# Altium footprint library Connector.PcbLib: 240 footprints (part 11 of 15)
Each footprint in its own frame and in the unit in brackets; x right, y up, seen from the top. Pads: shape width x height; smd on the part's side, far side on the other; paste and mask are expansions set on the pad; w line width, h text height; cw(c..) or ccw(c..) is an arc to the next point about the centre after c.
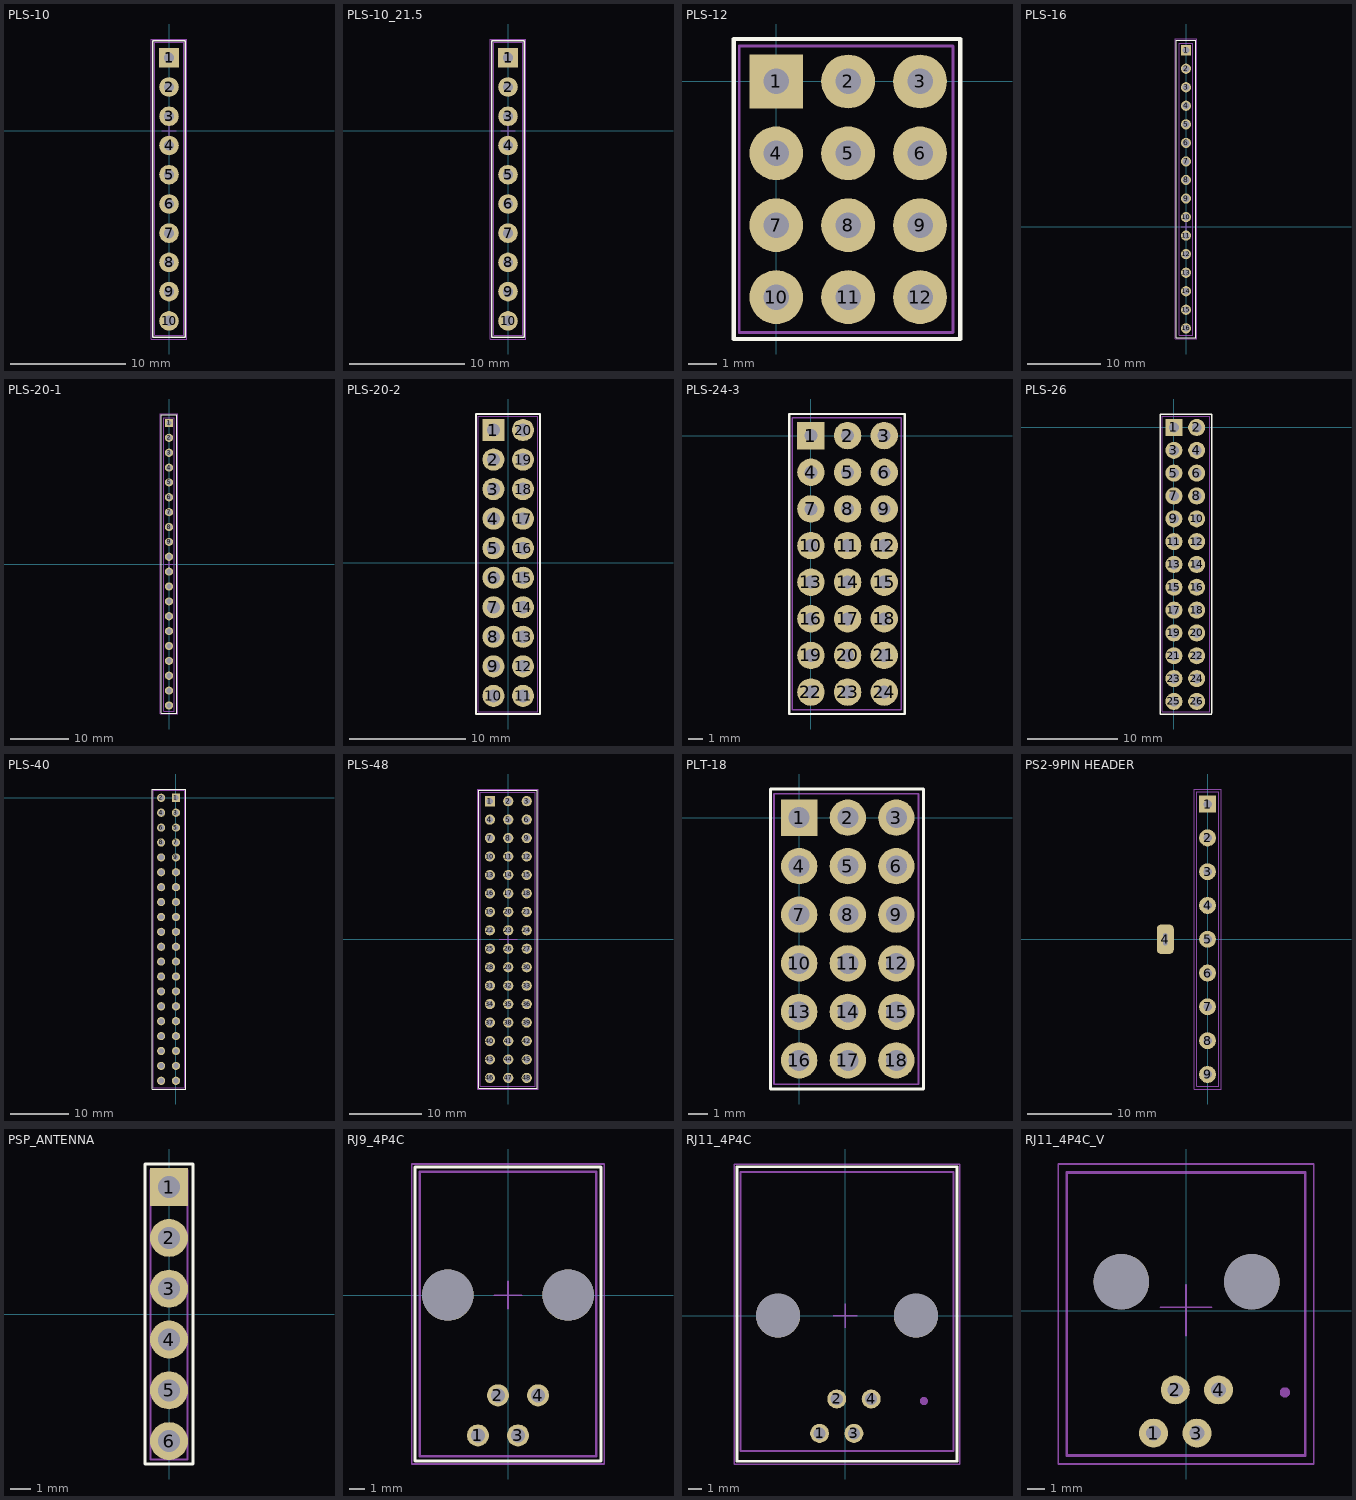
[diagram p10: the footprints below, top view; thin cyan lines are the x and y axes]

## PLS-10 [mm]
height 0.05
pads (10):
  rect 1.7x1.7 hole 0.9: 1(0,6.345)
  round 1.7 hole 0.9: 2(0,3.805) 3(0,1.265) 5(0,-3.815) 6(0,-6.355) 7(0,-8.895) 8(0,-11.435) 9(0,-13.975) 10(0,-16.515)
  round 1.7 hole 0.9 mask+0.102: 4(0,-1.275)
Top Overlay:
  lines w0.15: -1.4,-17.935 -1.4,7.825 1.4,7.825 1.4,-17.935 -1.4,-17.935
Mechanical 9:
  text ".Designator" at -4.5,9 h3.5
Mechanical 10:
  text ".Comment" at -3,-19.75 h2
Mechanical 11:
  lines w0.1: -1.23,-17.755 -1.23,7.68 1.3,7.68 1.3,-17.755 -1.23,-17.755
Mechanical 15:
  lines w0.1: -0.625,0 0.625,0 ; 0,-0.6 0,0.6 ; -1.55,-18.085 -1.55,7.95 -1.55,7.975 1.525,7.975 1.55,7.975 1.55,-18.085 -1.55,-18.085
3D body "User Library-PLS-2.step": height 8.54, standoff -3, extent -1.265,-12.675 1.275,-7.595
3D body "User Library-PLS-6.step": height 8.54, standoff -3, extent -1.27,-7.585 1.27,7.655
3D body "User Library-PLS-2.step": height 8.54, standoff -3, extent -1.265,-17.755 1.275,-12.675

## PLS-10_21.5 [mm]
height 0.05
pads (10):
  rect 1.7x1.7 hole 0.9: 1(0,6.345)
  round 1.7 hole 0.9: 2(0,3.805) 3(0,1.265) 5(0,-3.815) 6(0,-6.355) 7(0,-8.895) 8(0,-11.435) 9(0,-13.975) 10(0,-16.515)
  round 1.7 hole 0.9 mask+0.102: 4(0,-1.275)
Top Overlay:
  lines w0.15: -1.4,-17.935 1.4,-17.935 1.4,7.825 -1.4,7.825 -1.4,-17.935
Mechanical 9:
  text ".Designator" at -4.5,9 h3.5
Mechanical 10:
  text ".Comment" at -3,-19.75 h2
Mechanical 11:
  lines w0.1: -1.23,-17.755 1.3,-17.755 1.3,7.68 -1.23,7.68 -1.23,-17.755
Mechanical 15:
  lines w0.1: -0.625,0 0.625,0 ; 0,-0.6 0,0.6 ; -1.55,-18.085 1.55,-18.085 1.55,7.975 1.525,7.975 -1.55,7.975 -1.55,7.95 -1.55,-18.085
3D body "PLS10.STEP": height 24, standoff -3, extent -1.29,-17.775 1.25,7.625

## PLS-12 [mm]
height 0.05
pads (12):
  rect 1.9x1.9 hole 0.9: 1(0,0)
  round 1.9 hole 0.9: 2(2.54,0) 3(5.08,0) 4(0,-2.54) 5(2.54,-2.54) 6(5.08,-2.54) 7(0,-5.08) 8(2.54,-5.08) 9(5.08,-5.08) 11(2.54,-7.62) 12(5.08,-7.62)
  round 1.9 hole 0.9 mask+0.102: 10(0,-7.62)
Top Overlay:
  lines w0.15: -1.5,-9.1 -1.5,1.5 6.5,1.5 6.5,-9.1 -1.5,-9.1
Mechanical 7:
  lines w0.1: -1.31,-8.87 -1.31,1.25 6.25,1.25 6.25,-8.87 -1.31,-8.87
Mechanical 9:
  text ".Designator" at -3,2.5 h3.5
Mechanical 10:
  text ".Comment" at -0.5,-11 h2
3D body "User Library-PLS-3.step": height 8.54, standoff -3, extent -1.31,-1.25 6.31,1.29
3D body "User Library-PLS-3.step": height 8.54, standoff -3, extent -1.31,-3.79 6.31,-1.25
3D body "User Library-PLS-3.step": height 8.54, standoff -3, extent -1.31,-6.33 6.31,-3.79
3D body "User Library-PLS-3.step": height 8.54, standoff -3, extent -1.31,-8.87 6.31,-6.33

## PLS-16 [mm]
height 0.05
pads (16):
  rect 1.4x1.4 hole 0.92: 1(0,24.17)
  round 1.4 hole 0.92: 2(0,21.63) 3(0,19.09) 5(0,14.01) 6(0,11.47) 7(0,8.93) 9(0,3.85) 10(0,1.31) 11(0,-1.23) 13(0,-6.31) 14(0,-8.85) 15(0,-11.39) 16(0,-13.93)
  round 1.4 hole 0.92 mask+0.102: 4(0,16.55) 8(0,6.39) 12(0,-3.77)
Top Overlay:
  lines w0.15: -1.35,-15.24 -1.35,25.55 1.35,25.55 1.35,-15.24 -1.35,-15.24
Mechanical 9:
  text ".Designator" at -5.2,26.6 h3.5
Mechanical 10:
  text ".Comment" at -2.825,-17.025 h2
Mechanical 11:
  lines w0.1: -0.93,-14.9 -0.93,25.1 0.93,25.1 0.93,-14.9 -0.93,-14.9
Mechanical 15:
  lines w0.1: -0.625,0 0.625,0 ; 0,-0.6 0,0.6 ; -1.5,-15.39 -1.5,7.8 -1.5,25.7 1.5,25.7 1.5,7.825 1.5,-15.39 -1.5,-15.39
3D body "User Library-PLS-6.step": height 8.54, standoff -3, extent -1.27,10.24 1.27,25.48
3D body "User Library-PLS-6.step": height 8.54, standoff -3, extent -1.27,-5 1.27,10.24
3D body "User Library-PLS-2.step": height 8.54, standoff -3, extent -1.27,-10.09 1.27,-5.01
3D body "User Library-PLS-2.step": height 8.54, standoff -3, extent -1.27,-15.17 1.27,-10.09

## PLS-20-1 [mm]
height 0.05
pads (20):
  rect 1.4x1.4 hole 0.92: 1(0,24.17)
  round 1.4 hole 0.92: 2(0,21.63) 3(0,19.09) 5(0,14.01) 6(0,11.47) 7(0,8.93) 9(0,3.85) 10(0,1.31) 11(0,-1.23) 13(0,-6.31) 14(0,-8.85) 15(0,-11.39) 16(0,-13.93) 17(0,-16.47) 19(0,-21.55) 20(0,-24.09)
  round 1.4 hole 0.92 mask+0.102: 4(0,16.55) 8(0,6.39) 12(0,-3.77) 18(0,-19.01)
Top Overlay:
  lines w0.15: -1.35,-25.4 -1.35,25.55 1.35,25.55 1.35,-25.4 -1.35,-25.4
Mechanical 9:
  text ".Designator" at -5.2,26.6 h3.5
Mechanical 10:
  text ".Comment" at -2.9,-27.6 h2
Mechanical 11:
  lines w0.1: -0.93,-25.06 -0.93,25.1 0.93,25.1 0.93,-25.06 -0.93,-25.06
Mechanical 15:
  lines w0.1: -0.625,0 0.625,0 ; 0,-0.6 0,0.6 ; -1.5,-25.55 1.5,-25.55 1.5,7.825 1.5,25.7 -1.5,25.7 -1.5,7.8 -1.5,-25.55
3D body "User Library-PLS-6.step": height 8.54, standoff -3, extent -1.27,-5 1.27,10.24
3D body "User Library-PLS-6.step": height 8.54, standoff -3, extent -1.27,10.24 1.27,25.48
3D body "User Library-PLS-2.step": height 8.54, standoff -3, extent -1.27,-25.33 1.27,-20.25
3D body "User Library-PLS-6.step": height 8.54, standoff -3, extent -1.27,-20.24 1.27,-5

## PLS-20-2 [mm]
height 0.05
pads (20):
  rect 1.9x1.9 hole 1.1: 1(-1.27,11.43)
  round 1.9 hole 1.1: 2(-1.27,8.89) 3(-1.27,6.35) 5(-1.27,1.27) 6(-1.27,-1.27) 7(-1.27,-3.81) 9(-1.27,-8.89) 10(-1.27,-11.43) 11(1.27,-11.43) 12(1.27,-8.89) 14(1.27,-3.81) 15(1.27,-1.27) 16(1.27,1.27) 18(1.27,6.35) 19(1.27,8.89) 20(1.27,11.43)
  round 1.9 hole 1.1 mask+0.102: 4(-1.27,3.81) 8(-1.27,-6.35) 13(1.27,-6.35) 17(1.27,3.81)
Top Overlay:
  lines w0.15: -2.77,-12.99 2.73,-12.99 2.73,12.81 -2.77,12.81 -2.77,-12.99
Mechanical 7:
  lines w0.1: -2.57,-12.79 2.53,-12.79 2.53,12.61 -2.57,12.61 -2.57,-12.79
Mechanical 10:
  text ".Comment" at -0.17,3.51 h0.6
  text ".Designator" at -0.07,12.21 h0.8
3D body "User Library-PLS-5.step": height 8.54, standoff -3, extent 0,-12.7 2.54,0
3D body "User Library-PLS-5.step": height 8.54, standoff -3, extent 0,0 2.54,12.7
3D body "User Library-PLS-5.step": height 8.54, standoff -3, extent -2.54,-12.7 0,0
3D body "User Library-PLS-5.step": height 8.54, standoff -3, extent -2.54,0 0,12.7

## PLS-24-3 [mm]
height 0.05
pads (24):
  rect 1.9x1.9 hole 0.9: 1(0,0)
  round 1.9 hole 0.9: 2(2.54,0) 3(5.08,0) 4(0,-2.54) 5(2.54,-2.54) 6(5.08,-2.54) 7(0,-5.08) 8(2.54,-5.08) 9(5.08,-5.08) 11(2.54,-7.62) 12(5.08,-7.62) 13(0,-10.16) 14(2.54,-10.16) 15(5.08,-10.16) 16(0,-12.7) 17(2.54,-12.7) 18(5.08,-12.7) 19(0,-15.24) 20(2.54,-15.24) 21(5.08,-15.24) 22(0,-17.78) 23(2.54,-17.78) 24(5.08,-17.78)
  round 1.9 hole 0.9 mask+0.102: 10(0,-7.62)
Top Overlay:
  lines w0.15: -1.5,-19.3 -1.5,1.5 6.5,1.5 6.5,-19.3 -1.5,-19.3
Mechanical 7:
  lines w0.1: -1.31,-19 -1.31,1.25 6.25,1.25 6.25,-19 -1.31,-19
Mechanical 10:
  text ".Comment" at 1.1,-7.92 h0.6
  text ".Designator" at 1.2,0.78 h0.8
3D body "User Library-PLS-3.step": height 8.54, standoff -3, extent -1.31,-1.25 6.31,1.29
3D body "User Library-PLS-3.step": height 8.54, standoff -3, extent -1.31,-3.79 6.31,-1.25
3D body "User Library-PLS-3.step": height 8.54, standoff -3, extent -1.31,-6.33 6.31,-3.79
3D body "User Library-PLS-3.step": height 8.54, standoff -3, extent -1.31,-8.87 6.31,-6.33
3D body "User Library-PLS-3.step": height 8.54, standoff -3, extent -1.31,-19.03 6.31,-16.49
3D body "User Library-PLS-3.step": height 8.54, standoff -3, extent -1.31,-16.49 6.31,-13.95
3D body "User Library-PLS-3.step": height 8.54, standoff -3, extent -1.31,-13.95 6.31,-11.41
3D body "User Library-PLS-3.step": height 8.54, standoff -3, extent -1.31,-11.41 6.31,-8.87

## PLS-26 [mm]
height 0.05
pads (26):
  rect 1.9x1.9 hole 1.1: 1(0,0)
  round 1.9 hole 1.1: 2(2.54,0) 3(0,-2.54) 4(2.54,-2.54) 5(0,-5.08) 6(2.54,-5.08) 8(2.54,-7.62) 9(0,-10.16) 10(2.54,-10.16) 11(0,-12.7) 12(2.54,-12.7) 13(0,-15.24) 14(2.54,-15.24) 15(0,-17.78) 16(2.54,-17.78) 19(0,-22.86) 20(2.54,-22.86) 21(0,-25.4) 22(2.54,-25.4) 23(0,-27.94) 24(2.54,-27.94) 25(0,-30.48) 26(2.54,-30.48)
  round 1.9 hole 1.1 mask+0.102: 7(0,-7.62) 17(0,-20.32) 18(2.54,-20.32)
Top Overlay:
  lines w0.15: 4.2,-31.88 -1.5,-31.88 -1.5,1.5 4.2,1.5 4.2,-31.8
Mechanical 7:
  lines w0.1: -1.3,-31.63 4,-31.63 ; -1.3,-31.6 -1.3,1.25 4,1.25 4,-31.6
Mechanical 10:
  text ".Designator" at 1.2,0.78 h0.8
  text ".Comment" at 1.1,-7.92 h0.6
3D body "User Library-PLS-2.step": height 8.54, standoff -3, extent -1.24,-1.275 3.84,1.265
3D body "User Library-PLS-2.step": height 8.54, standoff -3, extent -1.24,-3.815 3.84,-1.275
3D body "User Library-PLS-2.step": height 8.54, standoff -3, extent -1.24,-6.355 3.84,-3.815
3D body "User Library-PLS-2.step": height 8.54, standoff -3, extent -1.24,-8.895 3.84,-6.355
3D body "User Library-PLS-2.step": height 8.54, standoff -3, extent -1.24,-11.435 3.84,-8.895
3D body "User Library-PLS-2.step": height 8.54, standoff -3, extent -1.24,-13.975 3.84,-11.435
3D body "User Library-PLS-2.step": height 8.54, standoff -3, extent -1.24,-16.515 3.84,-13.975
3D body "User Library-PLS-2.step": height 8.54, standoff -3, extent -1.24,-19.055 3.84,-16.515
3D body "User Library-PLS-2.step": height 8.54, standoff -3, extent -1.24,-21.595 3.84,-19.055
3D body "User Library-PLS-2.step": height 8.54, standoff -3, extent -1.24,-24.135 3.84,-21.595
3D body "User Library-PLS-2.step": height 8.54, standoff -3, extent -1.24,-26.675 3.84,-24.135
3D body "User Library-PLS-2.step": height 8.54, standoff -3, extent -1.24,-29.215 3.84,-26.675
3D body "User Library-PLS-2.step": height 8.54, standoff -3, extent -1.24,-31.755 3.84,-29.215

## PLS-40 [mm]
height 0.05
pads (40):
  rect 1.4x1.4 hole 0.92: 1(0,0)
  round 1.4 hole 0.92: 2(-2.54,0) 3(0,-2.54) 4(-2.54,-2.54) 5(0,-5.08) 6(-2.54,-5.08) 8(-2.54,-7.62) 9(0,-10.16) 10(-2.54,-10.16) 11(0,-12.7) 12(-2.54,-12.7) 13(0,-15.24) 14(-2.54,-15.24) 15(0,-17.78) 16(-2.54,-17.78) 19(0,-22.86) 20(-2.54,-22.86) 21(0,-25.4) 22(-2.54,-25.4) 23(0,-27.94) 24(-2.54,-27.94) 25(0,-30.48) 26(-2.54,-30.48) 27(0,-33.02) 28(-2.54,-33.02) 31(0,-38.1) 32(-2.54,-38.1) 33(0,-40.64) 34(-2.54,-40.64) 35(0,-43.18) 36(-2.54,-43.18) 39(0,-48.26) 40(-2.54,-48.26)
  round 1.4 hole 0.92 mask+0.102: 7(0,-7.62) 17(0,-20.32) 18(-2.54,-20.32) 29(0,-35.56) 30(-2.54,-35.56) 37(0,-45.72) 38(-2.54,-45.72)
Top Overlay:
  lines w0.15: -4.04,-49.66 1.66,-49.66 1.66,1.5 -4.04,1.5 -4.04,-49.66
Mechanical 7:
  lines w0.1: -3.85,-49.41 1.46,-49.41 1.46,1.25 -3.85,1.25 -3.85,-49.4
Mechanical 10:
  text ".Comment" at -1.44,-7.92 h0.6
  text ".Designator" at -1.34,0.78 h0.8
3D body "User Library-PLS-2.step": height 8.54, standoff -3, extent -3.78,-49.535 1.3,-46.995
3D body "User Library-PLS-2.step": height 8.54, standoff -3, extent -3.78,-46.995 1.3,-44.455
3D body "User Library-PLS-2.step": height 8.54, standoff -3, extent -3.78,-44.455 1.3,-41.915
3D body "User Library-PLS-2.step": height 8.54, standoff -3, extent -3.78,-41.915 1.3,-39.375
3D body "User Library-PLS-2.step": height 8.54, standoff -3, extent -3.78,-39.375 1.3,-36.835
3D body "User Library-PLS-2.step": height 8.54, standoff -3, extent -3.78,-36.835 1.3,-34.295
3D body "User Library-PLS-2.step": height 8.54, standoff -3, extent -3.78,-34.295 1.3,-31.755
3D body "User Library-PLS-2.step": height 8.54, standoff -3, extent -3.78,-31.755 1.3,-29.215
3D body "User Library-PLS-2.step": height 8.54, standoff -3, extent -3.78,-29.215 1.3,-26.675
3D body "User Library-PLS-2.step": height 8.54, standoff -3, extent -3.78,-26.675 1.3,-24.135
3D body "User Library-PLS-2.step": height 8.54, standoff -3, extent -3.78,-24.135 1.3,-21.595
3D body "User Library-PLS-2.step": height 8.54, standoff -3, extent -3.78,-21.595 1.3,-19.055
3D body "User Library-PLS-2.step": height 8.54, standoff -3, extent -3.78,-19.055 1.3,-16.515
3D body "User Library-PLS-2.step": height 8.54, standoff -3, extent -3.78,-16.515 1.3,-13.975
3D body "User Library-PLS-2.step": height 8.54, standoff -3, extent -3.78,-13.975 1.3,-11.435
3D body "User Library-PLS-2.step": height 8.54, standoff -3, extent -3.78,-11.435 1.3,-8.895
3D body "User Library-PLS-2.step": height 8.54, standoff -3, extent -3.78,-8.895 1.3,-6.355
3D body "User Library-PLS-2.step": height 8.54, standoff -3, extent -3.78,-6.355 1.3,-3.815
3D body "User Library-PLS-2.step": height 8.54, standoff -3, extent -3.78,-3.815 1.3,-1.275
3D body "User Library-PLS-2.step": height 8.54, standoff -3, extent -3.78,-1.275 1.3,1.265

## PLS-48 [mm]
height 0.05
pads (48):
  rect 1.4x1.4 hole 0.92: 1(-2.55,19.025)
  round 1.4 hole 0.92: 2(-0.01,19.025) 3(2.53,19.025) 4(-2.55,16.485) 5(-0.01,16.485) 6(2.53,16.485) 7(-2.55,13.945) 8(-0.01,13.945) 9(2.53,13.945) 11(-0.01,11.405) 12(2.53,11.405) 13(-2.55,8.865) 14(-0.01,8.865) 15(2.53,8.865) 16(-2.55,6.325) 17(-0.01,6.325) 18(2.53,6.325) 19(-2.55,3.785) 20(-0.01,3.785) 21(2.53,3.785) 22(-2.55,1.245) 23(-0.01,1.245) 24(2.53,1.245) 28(-2.55,-3.835) 29(-0.01,-3.835) 30(2.53,-3.835) 31(-2.55,-6.375) 32(-0.01,-6.375) 33(2.53,-6.375) 34(-2.55,-8.915) 35(-0.01,-8.915) 36(2.53,-8.915) 37(-2.55,-11.455) 38(-0.01,-11.455) 39(2.53,-11.455) 40(-2.55,-13.995) 41(-0.01,-13.995) 42(2.53,-13.995) 46(-2.55,-19.075) 47(-0.01,-19.075) 48(2.53,-19.075)
  round 1.4 hole 0.92 mask+0.102: 10(-2.55,11.405) 25(-2.55,-1.295) 26(-0.01,-1.295) 27(2.53,-1.295) 43(-2.55,-16.535) 44(-0.01,-16.535) 45(2.53,-16.535)
Top Overlay:
  lines w0.15: -4.05,-20.475 3.95,-20.475 3.95,20.525 -4.05,20.525 -4.05,-20.475
Mechanical 9:
  text ".Designator" at -5.3,21.525 h3.5
Mechanical 10:
  text ".Comment" at -2.8,-21.975 h2
  text ".Comment" at -1.45,11.105 h0.6
Mechanical 11:
  lines w0.1: -3.86,-20.225 3.7,-20.225 3.7,20.275 -3.86,20.275 -3.86,-20.225
Mechanical 15:
  lines w0.1: -1.25,0 1.25,0 ; 0,-1.25 0,1.25 ; -4.2,-20.6 -4.2,20.7 4.1,20.7 4.1,0.8 4.1,-20.6 -4.2,-20.6
3D body "User Library-PLS-3.step": height 8.54, standoff -3, extent -3.86,-20.325 3.76,-17.785
3D body "User Library-PLS-3.step": height 8.54, standoff -3, extent -3.86,-17.785 3.76,-15.245
3D body "User Library-PLS-3.step": height 8.54, standoff -3, extent -3.86,-15.245 3.76,-12.705
3D body "User Library-PLS-3.step": height 8.54, standoff -3, extent -3.86,-12.705 3.76,-10.165
3D body "User Library-PLS-3.step": height 8.54, standoff -3, extent -3.86,-10.165 3.76,-7.625
3D body "User Library-PLS-3.step": height 8.54, standoff -3, extent -3.86,-7.625 3.76,-5.085
3D body "User Library-PLS-3.step": height 8.54, standoff -3, extent -3.86,-5.085 3.76,-2.545
3D body "User Library-PLS-3.step": height 8.54, standoff -3, extent -3.86,-2.545 3.76,-0.005
3D body "User Library-PLS-3.step": height 8.54, standoff -3, extent -3.86,-0.005 3.76,2.535
3D body "User Library-PLS-3.step": height 8.54, standoff -3, extent -3.86,2.535 3.76,5.075
3D body "User Library-PLS-3.step": height 8.54, standoff -3, extent -3.86,5.075 3.76,7.615
3D body "User Library-PLS-3.step": height 8.54, standoff -3, extent -3.86,7.615 3.76,10.155
3D body "User Library-PLS-3.step": height 8.54, standoff -3, extent -3.86,10.155 3.76,12.695
3D body "User Library-PLS-3.step": height 8.54, standoff -3, extent -3.86,12.695 3.76,15.235
3D body "User Library-PLS-3.step": height 8.54, standoff -3, extent -3.86,15.235 3.76,17.775
3D body "User Library-PLS-3.step": height 8.54, standoff -3, extent -3.86,17.775 3.76,20.315

## PLT-18 [mm]
height 0.05
pads (18):
  rect 1.9x1.9 hole 1.1: 1(0,0)
  round 1.9 hole 1.1: 2(2.54,0) 3(5.08,0) 4(0,-2.54) 5(2.54,-2.54) 6(5.08,-2.54) 7(0,-5.08) 8(2.54,-5.08) 9(5.08,-5.08) 11(2.54,-7.62) 12(5.08,-7.62) 13(0,-10.16) 14(2.54,-10.16) 15(5.08,-10.16) 16(0,-12.7) 17(2.54,-12.7) 18(5.08,-12.7)
  round 1.9 hole 1.1 mask+0.102: 10(0,-7.62)
Top Overlay:
  lines w0.15: -1.5,-14.2 6.5,-14.2 6.5,1.5 -1.5,1.5 -1.5,-14.2
Mechanical 7:
  lines w0.1: -1.31,-13.95 6.25,-13.95 6.25,1.25 -1.31,1.25 -1.31,-13.95
Mechanical 10:
  text ".Designator" at 1.2,0.78 h0.8
  text ".Comment" at 1.1,-7.92 h0.6
3D body "User Library-PLS-3.step": height 8.54, standoff -3, extent -1.31,-11.41 6.31,-8.87
3D body "User Library-PLS-3.step": height 8.54, standoff -3, extent -1.31,-13.95 6.31,-11.41
3D body "User Library-PLS-3.step": height 8.54, standoff -3, extent -1.31,-8.87 6.31,-6.33
3D body "User Library-PLS-3.step": height 8.54, standoff -3, extent -1.31,-6.33 6.31,-3.79
3D body "User Library-PLS-3.step": height 8.54, standoff -3, extent -1.31,-3.79 6.31,-1.25
3D body "User Library-PLS-3.step": height 8.54, standoff -3, extent -1.31,-1.25 6.31,1.29

## PS2-9PIN HEADER [mm]
height 0.05
pads (10):
  rect 2x2 hole 1: 1(0,16)
  round 2 hole 1: 2(0,12) 3(0,8) 5(0,0) 6(0,-4) 7(0,-8) 8(0,-12) 9(0,-16)
  rrect50% 2x3.5 hole 0.5 slot 1.4 at 90 deg: 4(-5,0)
  round 2 hole 1 mask+0.102: 4(0,4)
Mechanical 9:
  text ".Designator" at -6.65,-22.1 h3.5
Mechanical 10:
  text ".Comment" at -2.25,-24.275 h2
Mechanical 11:
  lines w0.1: -1.25,-17.4 1.3,-17.4 1.3,17.465 -1.25,17.465 -1.25,-17.4
Mechanical 15:
  lines w0.1: -0.625,0 0.625,0 ; 0,-0.6 0,0.6 ; -1.6,-17.725 1.65,-17.725 1.65,9.215 1.65,17.79 -1.6,17.79 -1.6,9.14 -1.6,-17.725

## PSP_ANTENNA [mm]
height 0.05
pads (6):
  rect 1.9x1.9 hole 1.1: 1(0,6.345)
  round 1.9 hole 1.1: 2(0,3.805) 3(0,1.265) 5(0,-3.815) 6(0,-6.355)
  round 1.9 hole 1.1 mask+0.102: 4(0,-1.275)
Top Overlay:
  lines w0.15: -1.2,-7.5 1.2,-7.5 1.2,7.5 -1.2,7.5 -1.2,-7.5
Mechanical 7:
  lines w0.1: -0.93,-7.275 0.93,-7.275 0.93,7.205 -0.93,7.205 -0.93,-7.275
Mechanical 10:
  text ".Designator" at 1.2,7.125 h0.8
  text ".Comment" at 1.1,-1.575 h0.6
3D body "PSP_Antenna.STEP": height 54.05, standoff -5.95, extent -2.275,-23.625 22.725,24.375

## RJ9_4P4C [mm]
pads (6):
  round 1.398 hole 0.89: 1(-1.905,-8.89) 2(-0.635,-6.35) 3(0.635,-8.89) 4(1.905,-6.35)
  round 3.25 hole 3.25 unplated: ""(-3.81,0) ""(3.81,0)
Top Overlay:
  lines w0.2: -5.9,-10.5 5.9,-10.5 5.9,8.1 -5.9,8.1 -5.9,-10.5
Mechanical 9:
  text ".Designator" at -6.6,10.5 h3.5
Mechanical 10:
  text ".Comment" at -1,8.9 h2
Mechanical 11:
  lines w0.15: -5.6,-10.2 -5.6,7.8 5.6,7.8 5.6,-10.2 -5.6,-10.2
Mechanical 15:
  lines w0.1: -0.875,0 0.875,0 ; 0,-0.875 0,0.875 ; -6.1,-10.7 -6.1,8.3 6.1,8.3 6.1,-10.7 -6.1,-10.7
3D body "User Library-RJ 4p4c.step": height 11.65, standoff -3.45, extent -5.59,-10.15 5.59,7.85

## RJ11_4P4C [mm]
pads (6):
  round 1.398 hole 0.89: 1(-1.9,-8.69) 2(-0.63,-6.15) 3(0.64,-8.69) 4(1.91,-6.15)
  round 3.25 hole 3.25 unplated: ""(-4.965,0) ""(5.215,0)
Top Overlay:
  lines w0.2: -8,-10.75 -8,11 8.25,11 8.25,-10.75 -8,-10.75
Mechanical 4:
  circle w0.3: c5.8,-6.3 r0.15
Mechanical 9:
  text ".Designator" at -4.95,13.7 h3.5
Mechanical 10:
  text ".Comment" at -2.75,11.7 h2
Mechanical 11:
  lines w0.15: -7.75,-9.975 -7.75,10.6 7.975,10.6 7.975,-9.975 -7.75,-9.975
Mechanical 15:
  lines w0.1: -0.875,0 0.875,0 ; 0,-0.875 0,0.875 ; -8.2,-10.95 8.45,-10.95 8.45,11.2 -8.2,11.2 -8.2,11.125 -8.2,-10.125 -8.2,-10.95
3D body "ACC-M-RJE02-164-0X21-REVT1.step": height 16.03, standoff -3.62, extent -7.75,-9.98 8,10.59

## RJ11_4P4C_V [mm]
pads (6):
  round 1.7 hole 0.89: 1(-1.9,-7.19) 2(-0.63,-4.65) 3(0.64,-7.19) 4(1.91,-4.65)
  round 3.25 hole 3.25 unplated: ""(-3.79,1.7) ""(3.865,1.7)
Mechanical 4:
  circle w0.3: c5.8,-4.8 r0.15
Mechanical 9:
  text ".Designator" at -5.8,-11.8 h3.5
Mechanical 10:
  text ".Comment" at -3.6,-13.8 h2
Mechanical 11:
  lines w0.15: -7,-8.5 -7,8.1 7,8.1 7,-8.5 -7,-8.5
Mechanical 15:
  lines w0.1: -1.5,0.2 1.5,0.2 ; 0,-1.47 0,1.5 ; -7.5,-9 7.5,-9 7.5,8.6 -7.5,8.6 -7.5,-9
3D body "71070911.stp": height 15.94, standoff -3.74, extent -6.96,-8.43 7.01,8.07